# EAGLE library part *33298 (library FreeScale Semiconductor)
Octal Serial Switch with SPI Freescale Semiconductor MC33298 Datasheet <http://www.freescale.com/files/analog/doc/data_sheet/MC33298.pdf?pspll=1>
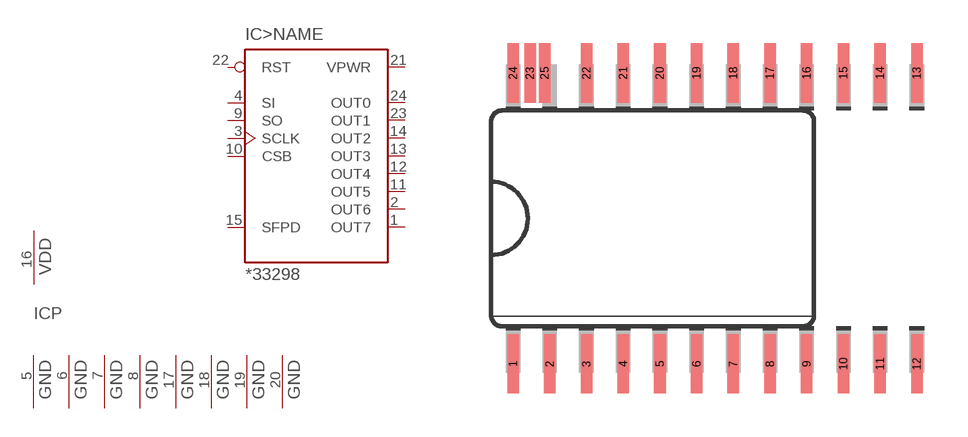
[diagram p0: symbol with the pads of SO24L; footprint SO24L]

Designator prefix IC; gates >NAME=*33298 P=1VDD8VSS

## MC33298DW, MCZ33298DW  [SO24L]
1  >NAME:OUT7  out
2  >NAME:OUT6  out
3  >NAME:SCLK  in
4  >NAME:SI  in
5  P:GND  pwr
6  P:GND  pwr
7  P:GND  pwr
8  P:GND  pwr
9  >NAME:SO  out
10  >NAME:CSB  in
11  >NAME:OUT5  out
12  >NAME:OUT4  out
13  >NAME:OUT3  out
14  >NAME:OUT2  out
15  >NAME:SFPD  in
16  P:VDD  pwr
17  P:GND  pwr
18  P:GND  pwr
19  P:GND  pwr
20  P:GND  pwr
21  >NAME:VPWR  pwr
22  >NAME:RST  in
23  >NAME:OUT1  out
24  >NAME:OUT0  out

## Footprint SO24L (pad centres in mm)
Small Outline Package Large SO-24L; Case 751
smd 0.4 x 2.05: 1 -6.985,-5.029; 2 -5.715,-5.029; 3 -4.445,-5.029; 4 -3.175,-5.029; 5 -1.905,-5.029; 6 -0.635,-5.029; 7 0.635,-5.029; 8 1.905,-5.029; 9 3.175,-5.029; 10 4.445,-5.029; 11 5.715,-5.029; 12 6.985,-5.029; 13 6.985,5.029; 14 5.715,5.029; 15 4.445,5.029; 16 3.175,5.029; 17 1.905,5.029; 18 0.635,5.029; 19 -0.635,5.029; 20 -1.905,5.029; 21 -3.175,5.029; 22 -4.445,5.029; 23 -6.401,5.029; 24 -6.985,5.029; 25 -5.893,5.029